# EAGLE library part H700E* (library rele)
RELAY
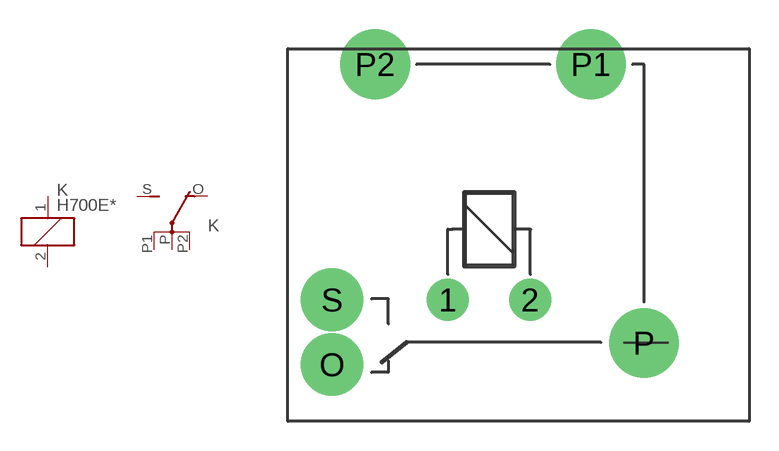
[diagram p8: symbol with the pads of H700; footprint H700]

Designator prefix K; gates G$1=U2 G$2=K

## H700E06, H700E12, H700E24  [H700]
1  G$2:1  pas
2  G$2:2  pas
O  G$1:O  pas
P  G$1:P  pas
P1  G$1:P  pas
P2  G$1:P  pas
S  G$1:S  pas

## Footprint H700 (pad centres in mm)
RELAY
drill 1.422 round: 1 -3.6,-3.3; 2 0.6,-3.3
drill 2.184 round: O -9.5,-6.6; S -9.5,-3.3
drill 2.54 round: P 6.4,-5.5; P1 3.7,8.7; P2 -7.3,8.7